# Altium footprint library PCB1.PcbLib: 11 footprints
Each footprint in its own frame and in the unit in brackets; x right, y up, seen from the top. Pads: shape width x height; smd on the part's side, far side on the other; paste and mask are expansions set on the pad; w line width, h text height; cw(c..) or ccw(c..) is an arc to the next point about the centre after c.
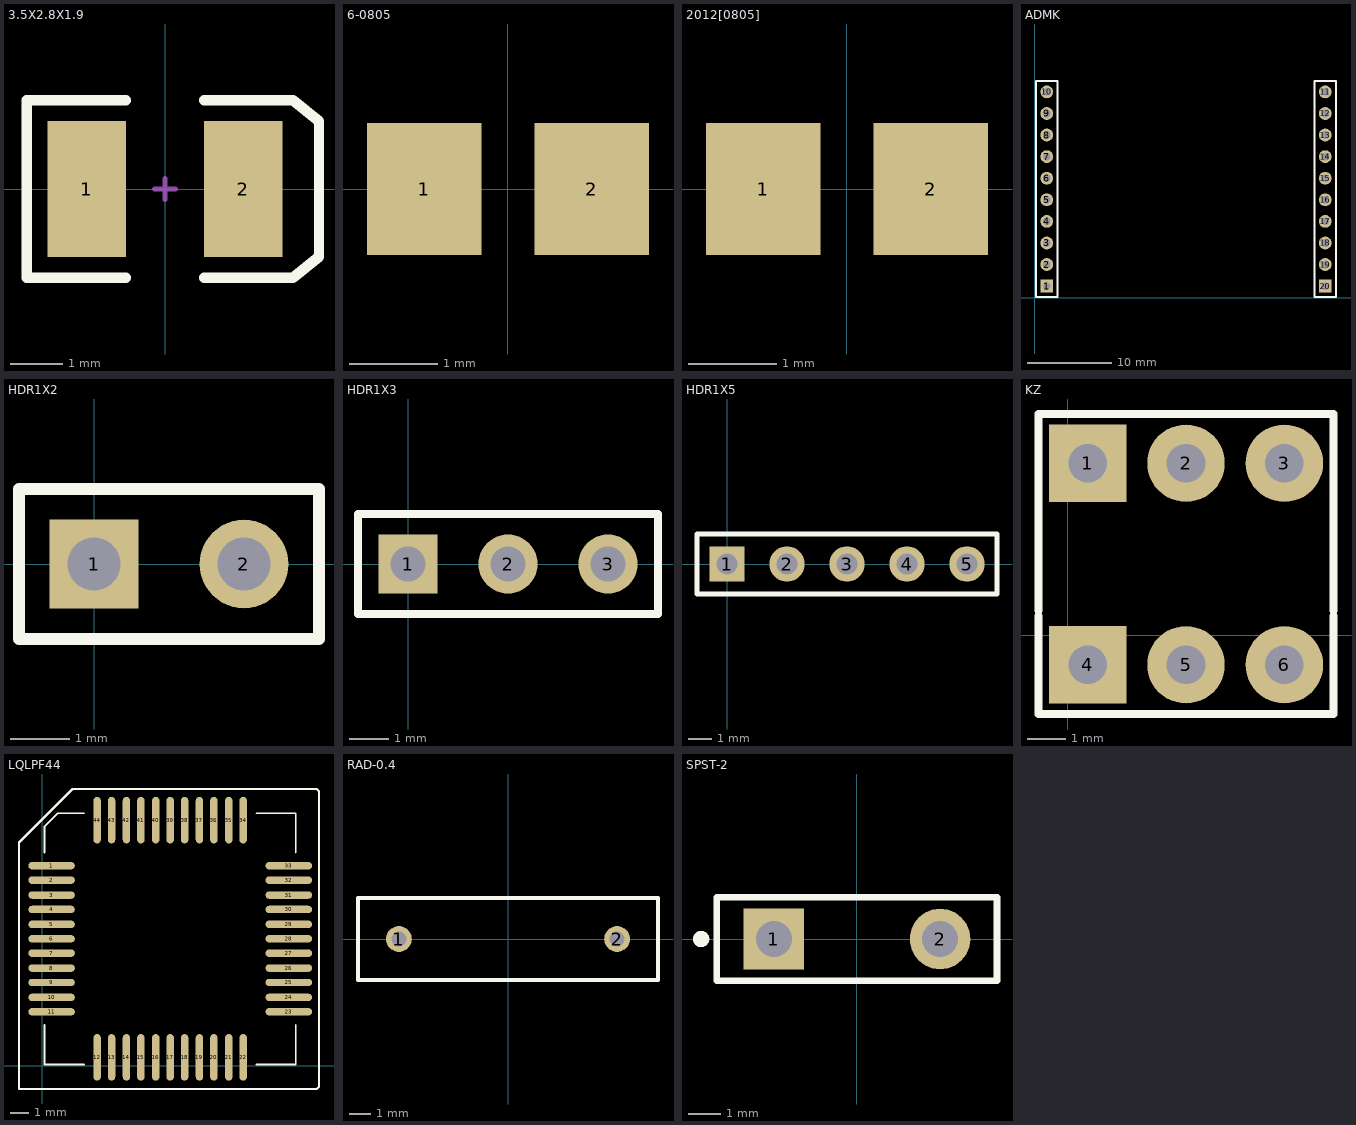
[diagram p0: the footprints below, top view; thin cyan lines are the x and y axes]

## 3.5X2.8X1.9 [mm] "SM LED; 2 C-Bend Leads; Body 3.5 x 2.8 x 1.9 mm, inc leads (LxWxH typ)"
height 1.9
pads (2):
  rect 1.5x2.6 smd: 1(-1.5,0) 2(1.5,0)
Top Overlay:
  lines w0.2: -0.75,-1.7 -2.65,-1.7 -2.65,1.7 -0.75,1.7 ; 0.75,-1.7 2.45,-1.7 2.95,-1.3 2.95,1.3 2.45,1.7 0.75,1.7
Mechanical 1:
  lines w0.1: -0.2,0 0.2,0 ; 0,-0.2 0,0.2

## 6-0805 [mm] "Chip Resistor; Body 2.0 x 1.3 mm (LxW typ)"
height 0.65
pads (2):
  rect 1.3x1.5 smd: 1(-0.95,0) 2(0.95,0)

## 2012[0805] [mm] "Chip Resistor; Body 2.0 x 1.3 mm (LxW typ)"
height 2.54
pads (2):
  rect 1.3x1.5 smd: 1(-0.95,0) 2(0.95,0)

## ADMK [mm]
pads (20):
  rect 1.5x1.5 hole 0.9: 1(1.397,1.397) 20(34.163,1.397)
  round 1.5 hole 0.9: 2(1.397,3.937) 3(1.397,6.477) 4(1.397,9.017) 5(1.397,11.557) 6(1.397,14.097) 7(1.397,16.637) 8(1.397,19.177) 9(1.397,21.717) 10(1.397,24.257) 11(34.163,24.257) 12(34.163,21.717) 13(34.163,19.177) 14(34.163,16.637) 15(34.163,14.097) 16(34.163,11.557) 17(34.163,9.017) 18(34.163,6.477) 19(34.163,3.937)
Top Layer:
  lines w0.254: 1.143,1.397 1.651,1.397 ; 1.397,1.143 1.397,1.651 ; 33.909,1.016 34.417,1.016 ; 34.163,0.762 34.163,1.27
Top Overlay:
  lines w0.2: 0.127,0.127 2.667,0.127 2.667,25.527 0.127,25.527 0.127,2.032 0.127,0.127 ; 32.893,0.127 32.893,2.032 32.893,25.527 35.433,25.527 35.433,0.127 32.893,0.127

## HDR1X2 [mm] "Connector; Header; 2 Position"
pads (2):
  rect 1.5x1.5 hole 0.9: 1(0,0)
  round 1.5 hole 0.9: 2(2.54,0)
Top Overlay:
  lines w0.2: -1.27,-1.27 -1.27,1.27 3.81,1.27 3.81,-1.27 -1.27,-1.27

## HDR1X3 [mm] "Connector; Header; 3 Position"
pads (3):
  rect 1.5x1.5 hole 0.9: 1(0,0)
  round 1.5 hole 0.9: 2(2.54,0) 3(5.08,0)
Top Overlay:
  lines w0.2: -1.27,-1.27 -1.27,1.27 6.35,1.27 6.35,-1.27 -1.27,-1.27

## HDR1X5 [mm] "Connector; Header; 5 Position"
pads (5):
  rect 1.5x1.5 hole 0.9: 1(0,0)
  round 1.5 hole 0.9: 2(2.54,0) 3(5.08,0) 4(7.62,0) 5(10.16,0)
Top Overlay:
  lines w0.2: -1.27,-1.27 11.43,-1.27 11.43,1.27 -1.27,1.27 -1.27,-1.27

## KZ [mm]
pads (6):
  rect 2x2 hole 1: 1(0.508,4.445) 4(0.508,-0.762)
  round 2 hole 1: 2(3.048,4.445) 3(5.588,4.445) 5(3.048,-0.762) 6(5.588,-0.762)
Top Overlay:
  lines w0.2: -0.762,0.508 -0.762,-2.032 6.858,-2.032 6.858,0.508 ; -0.762,0.635 -0.762,3.175 -0.762,5.715 6.858,5.715 6.858,3.175 6.858,0.635

## LQLPF44 [mil] "STC"
pads (44):
  oval 100x16 smd: 1(20,430) 2(20,399) 3(20,367) 4(20,336) 5(20,304) 6(20,273) 7(20,242) 8(20,210) 9(20,179) 10(20,147) 11(20,116) 23(530,116) 24(530,147) 25(530,179) 26(530,210) 27(530,242) 28(530,273) 29(530,304) 30(530,336) 31(530,367) 32(530,399) 33(530,430)
  oval 16x100 smd: 12(118,18) 13(149,18) 14(181,18) 15(212,18) 16(244,18) 17(275,18) 18(306,18) 19(338,18) 20(369,18) 21(401,18) 22(432,18) 34(432,528) 35(401,528) 36(369,528) 37(338,528) 38(306,528) 39(275,528) 40(244,528) 41(212,528) 42(181,528) 43(149,528) 44(118,528)
Top Overlay:
  lines w4: 5,88 5,3 90,3 ; 5,458 5,515 33,543 90,543 ; 460,3 545,3 545,88 ; 460,543 545,543 545,458
  lines w5: -50,-50 590,-50 595,-45 595,590 590,595 65,595 -50,480 -50,-50

## RAD-0.4 [mm] "Servo Motor; 2 Leads"
pads (2):
  round 1.2 hole 0.7: 1(-5.08,0) 2(5.08,0)
Top Overlay:
  lines w0.2: -6.985,-1.905 6.985,-1.905 6.985,1.905 -6.985,1.905 -6.985,-1.905

## SPST-2 [mm] "Circuit Breaker; 2 Leads"
pads (2):
  rect 1.85x1.85 hole 1.1: 1(-2.54,0)
  round 1.85 hole 1.1: 2(2.54,0)
Top Overlay:
  circle w0.25: c-4.761,-0.001 r0.125
  lines w0.2: -4.28,-1.27 -4.28,1.27 4.28,1.27 4.28,-1.27 -4.28,-1.27